# Altium footprint library ESP32S3WROOM1N4R8.PcbLib: 1 footprints
Each footprint in its own frame and in the unit in brackets; x right, y up, seen from the top. Pads: shape width x height; smd on the part's side, far side on the other; paste and mask are expansions set on the pad; w line width, h text height; cw(c..) or ccw(c..) is an arc to the next point about the centre after c.
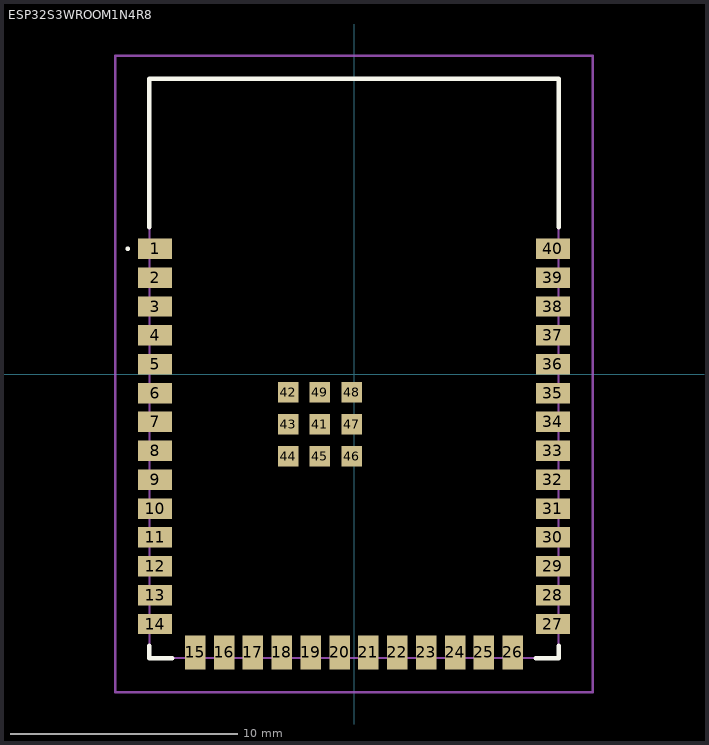
[diagram p0: the footprint, top view; thin cyan lines are the x and y axes]

## ESP32S3WROOM1N4R8 [mm]
pads (49):
  rect 1.5x0.9 smd: 1(-8.75,5.51) 2(-8.75,4.24) 3(-8.75,2.97) 4(-8.75,1.7) 5(-8.75,0.43) 6(-8.75,-0.84) 7(-8.75,-2.11) 8(-8.75,-3.38) 9(-8.75,-4.65) 10(-8.75,-5.92) 11(-8.75,-7.19) 12(-8.75,-8.46) 13(-8.75,-9.73) 14(-8.75,-11) 27(8.75,-11) 28(8.75,-9.73) 29(8.75,-8.46) 30(8.75,-7.19) 31(8.75,-5.92) 32(8.75,-4.65) 33(8.75,-3.38) 34(8.75,-2.11) 35(8.75,-0.84) 36(8.75,0.43) 37(8.75,1.7) 38(8.75,2.97) 39(8.75,4.24) 40(8.75,5.51)
  rect 0.9x1.5 smd: 15(-6.985,-12.25) 16(-5.715,-12.25) 17(-4.445,-12.25) 18(-3.175,-12.25) 19(-1.905,-12.25) 20(-0.635,-12.25) 21(0.635,-12.25) 22(1.905,-12.25) 23(3.175,-12.25) 24(4.445,-12.25) 25(5.715,-12.25) 26(6.985,-12.25)
  rect 0.9x0.9 smd: 41(-1.5,-2.21) 42(-2.9,-0.81) 43(-2.9,-2.21) 44(-2.9,-3.61) 45(-1.5,-3.61) 46(-0.1,-3.61) 47(-0.1,-2.21) 48(-0.1,-0.81) 49(-1.5,-0.81)
Top Overlay:
  lines w0.1: -10,5.51 -10,5.51 ; -10,5.51 ccw(c-9.95,5.51) -9.9,5.51 ; -10,5.51 cw(c-9.95,5.51) -9.9,5.51 ; -9.9,5.51 -9.9,5.51
  lines w0.2: -9,-11.95 -9,-12.5 -8,-12.5 ; -9,6.45 -9,13 9,13 9,6.45 ; 8,-12.5 9,-12.5 9,-11.95
Mechanical 15:
  lines w0.1: -9,-12.5 9,-12.5 9,13 -9,13 -9,-12.5
Mechanical 20:
  lines w0.1: -10.5,-14 10.5,-14 10.5,14 -10.5,14 -10.5,-14